# Altium footprint library XL-5050RGBC.PcbLib: 1 footprints
Each footprint in its own frame and in the unit in brackets; x right, y up, seen from the top. Pads: shape width x height; smd on the part's side, far side on the other; paste and mask are expansions set on the pad; w line width, h text height; cw(c..) or ccw(c..) is an arc to the next point about the centre after c.
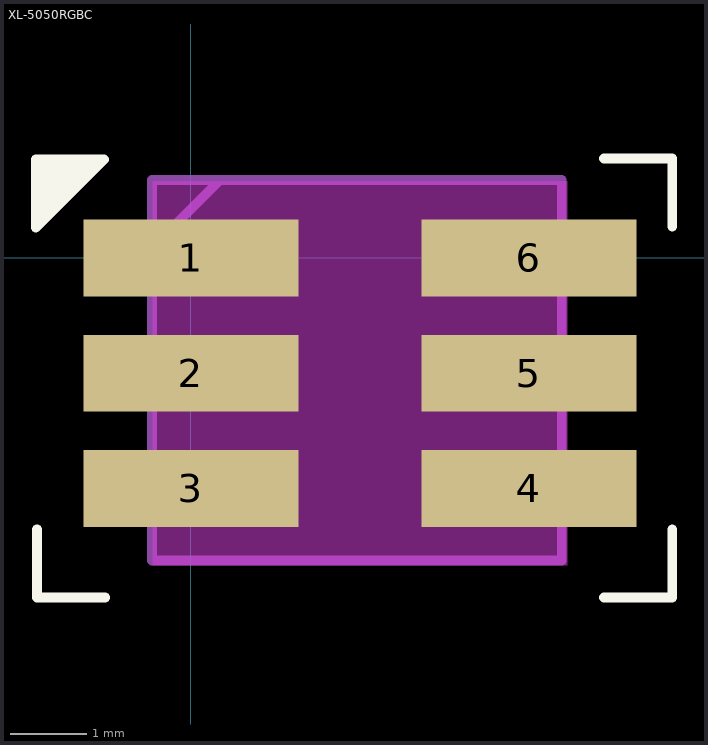
[diagram p0: the footprint, top view; thin cyan lines are the x and y axes]

## XL-5050RGBC [mm]
pads (6):
  rect 2.8x1 smd: 1(0,0) 2(0,-1.5) 3(0,-3) 4(4.4,-3) 5(4.4,-1.5) 6(4.4,0)
Top Overlay:
  region: -2.019,1.283 -1.13,1.283 -2.019,0.394
  lines w0.127: -2.004,-3.532 -2.004,-4.421 -1.115,-4.421 ; 5.375,-4.421 6.264,-4.421 6.264,-3.532 ; 5.375,1.294 6.264,1.294 6.264,0.405 ; -2.019,0.394 -1.13,1.283 -2.019,1.283 -2.019,0.394
Keep-Out Layer:
  rectangle: -0.5,-4 4.9,1
Mechanical 1:
  lines w0.127: -0.508,0.127 0.381,1.016 0.508,1.016 ; -0.508,-3.937 -0.508,1.016 4.826,1.016 4.826,-3.937 -0.508,-3.937